# Altium footprint library PicoBlade.PcbLib: 10 footprints
Each footprint in its own frame and in the unit in brackets; x right, y up, seen from the top. Pads: shape width x height; smd on the part's side, far side on the other; paste and mask are expansions set on the pad; w line width, h text height; cw(c..) or ccw(c..) is an arc to the next point about the centre after c.
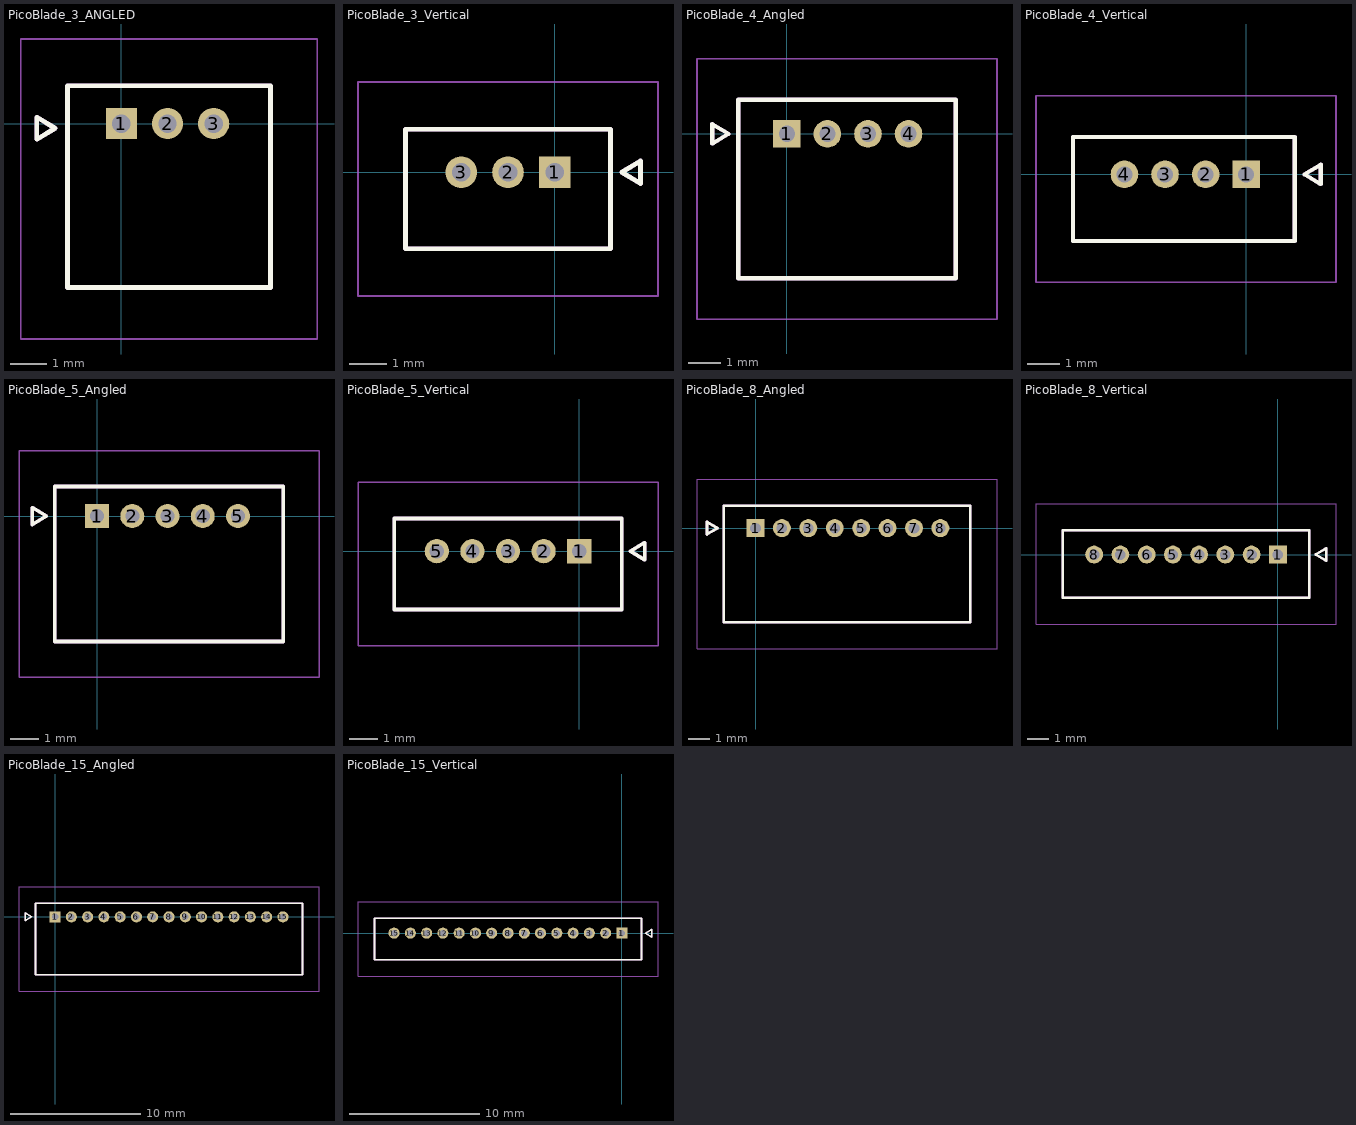
[diagram p0: the footprints below, top view; thin cyan lines are the x and y axes]

## PicoBlade_3_ANGLED [mm]
pads (3):
  rect 0.85x0.85 / inner round 0.85 / far side rect 0.85x0.85 hole 0.5 mask+0.076: 1(0,0)
  round 0.85 hole 0.5 mask+0.076: 2(1.25,0) 3(2.5,0)
Top Overlay:
  lines w0.127: -2.3,-0.427 -2.3,0.173 -1.8,-0.127 -2.3,-0.427 ; -1.46,-4.445 4.04,-4.445 4.04,1.023 -1.46,1.023 -1.46,-4.445
Mechanical 13:
  lines w0.127: -2.3,-0.427 -1.8,-0.127 -2.3,0.173 -2.3,-0.427 ; -1.46,-4.445 4.04,-4.445 4.04,1.023 -1.46,1.023 -1.46,-4.445
Mechanical 15:
  lines w0.05: -2.73,-5.842 5.31,-5.842 5.31,2.293 -2.73,2.293 -2.73,-5.842
3D body "530480310.stp": height 3.7, standoff -2.1, extent -1.48,-4.425 4.02,1.075

## PicoBlade_3_Vertical [mm]
pads (3):
  rect 0.85x0.85 / inner round 0.85 / far side rect 0.85x0.85 hole 0.5 mask+0.076: 1(0,0)
  round 0.85 hole 0.5 mask+0.076: 2(-1.25,0) 3(-2.5,0)
Top Overlay:
  lines w0.127: -4,-2.05 1.5,-2.05 1.5,1.15 -4,1.15 -4,-2.05 ; 1.8,0 2.3,-0.3 2.3,0.3 1.8,0
Mechanical 13:
  lines w0.127: -4,-2.05 1.5,-2.05 1.5,1.15 -4,1.15 -4,-2.05 ; 1.8,0 2.3,-0.3 2.3,0.3 1.8,0
Mechanical 15:
  lines w0.05: -5.27,-3.32 2.77,-3.32 2.77,2.42 -5.27,2.42 -5.27,-3.32
3D body "530470310--3DModel-STEP-231308.STEP": height 4.28, standoff -2.22, extent -4.02,-2.108 1.48,1.092

## PicoBlade_4_Angled [mm]
pads (4):
  rect 0.85x0.85 / inner round 0.85 / far side rect 0.85x0.85 hole 0.5 mask+0.076: 1(0,0)
  round 0.85 hole 0.5 mask+0.076: 2(1.25,0) 3(2.5,0) 4(3.75,0)
Top Overlay:
  lines w0.127: -2.3,-0.3 -1.8,0 -2.3,0.3 -2.3,-0.3 ; -1.5,-4.45 -1.5,1.05 5.207,1.05 5.207,-4.45 -1.5,-4.45
Mechanical 13:
  lines w0.127: -2.3,-0.3 -1.8,0 -2.3,0.3 -2.3,-0.3 ; -1.5,-4.45 -1.5,1.05 5.207,1.05 5.207,-4.45 -1.5,-4.45
Mechanical 15:
  lines w0.05: -2.77,-5.72 -2.77,2.32 6.477,2.32 6.477,-5.72 -2.77,-5.72
3D body "530480410.stp": height 3.6, standoff -2.2, extent -1.524,-4.445 5.226,1.055

## PicoBlade_4_Vertical [mm]
pads (4):
  rect 0.85x0.85 / inner round 0.85 / far side rect 0.85x0.85 hole 0.5 mask+0.076: 1(0,0)
  round 0.85 hole 0.5 mask+0.076: 2(-1.25,0) 3(-2.5,0) 4(-3.75,0)
Top Overlay:
  lines w0.127: -5.334,-2.05 -5.334,1.15 1.5,1.15 1.5,-2.05 -5.334,-2.05 ; 1.8,0 2.3,0.3 2.3,-0.3 1.8,0
Mechanical 13:
  lines w0.127: -5.334,-2.05 -5.334,1.15 1.5,1.15 1.5,-2.05 -5.334,-2.05 ; 1.8,0 2.3,0.3 2.3,-0.3 1.8,0
Mechanical 15:
  lines w0.05: -6.477,-3.32 -6.477,2.42 2.77,2.42 2.77,-3.32 -6.477,-3.32
3D body "530470410.stp": height 4.28, standoff -2.22, extent -5.28,-2.032 1.47,1.168

## PicoBlade_5_Angled [mm]
pads (5):
  rect 0.85x0.85 / inner round 0.85 / far side rect 0.85x0.85 hole 0.5 mask+0.076: 1(0,0)
  round 0.85 hole 0.5 mask+0.076: 2(1.25,0) 3(2.5,0) 4(3.75,0) 5(5,0)
Top Overlay:
  lines w0.127: -2.3,-0.3 -2.3,0.3 -1.8,0 -2.3,-0.3 ; -1.5,-4.45 6.604,-4.45 6.604,1.05 -1.5,1.05 -1.5,-4.45
Mechanical 13:
  lines w0.127: -2.3,-0.3 -2.3,0.3 -1.8,0 -2.3,-0.3 ; -1.5,-4.45 6.604,-4.45 6.604,1.05 -1.5,1.05 -1.5,-4.45
Mechanical 15:
  lines w0.05: -2.77,-5.72 7.874,-5.72 7.874,2.32 -2.77,2.32 -2.77,-5.72
3D body "530480510.stp": height 3.6, standoff -2.2, extent -1.46,-4.404 6.54,1.096

## PicoBlade_5_Vertical [mm]
pads (5):
  rect 0.85x0.85 / inner round 0.85 / far side rect 0.85x0.85 hole 0.5 mask+0.076: 1(0,0)
  round 0.85 hole 0.5 mask+0.076: 2(-1.25,0) 3(-2.5,0) 4(-3.75,0) 5(-5,0)
Top Overlay:
  lines w0.127: -6.5,-2.05 -6.5,1.15 1.5,1.15 1.5,-2.05 -6.5,-2.05 ; 1.8,0 2.3,0.3 2.3,-0.3 1.8,0
Mechanical 13:
  lines w0.127: -6.5,-2.05 -6.5,1.15 1.5,1.15 1.5,-2.05 -6.5,-2.05 ; 1.8,0 2.3,0.3 2.3,-0.3 1.8,0
Mechanical 15:
  lines w0.05: -7.77,-3.32 -7.77,2.42 2.77,2.42 2.77,-3.32 -7.77,-3.32
3D body "530470510--3DModel-STEP-231308.STEP": height 4.28, standoff -2.22, extent -6.54,-2.108 1.46,1.092

## PicoBlade_8_Angled [mm]
pads (8):
  rect 0.85x0.85 / inner round 0.85 / far side rect 0.85x0.85 hole 0.5 mask+0.076: 1(0,0)
  round 0.85 hole 0.5 mask+0.076: 2(1.25,0) 3(2.5,0) 4(3.75,0) 5(5,0) 6(6.25,0) 7(7.5,0) 8(8.75,0)
Top Overlay:
  lines w0.127: -2.3,-0.3 -1.8,0 -2.3,0.3 -2.3,-0.3 ; -1.5,-4.45 -1.5,1.05 10.16,1.05 10.16,-4.45 -1.5,-4.45
Mechanical 13:
  lines w0.127: -2.3,-0.3 -1.8,0 -2.3,0.3 -2.3,-0.3 ; -1.5,-4.45 -1.5,1.05 10.16,1.05 10.16,-4.45 -1.5,-4.45
Mechanical 15:
  lines w0.05: -2.77,-5.72 -2.77,2.32 11.43,2.32 11.43,-5.72 -2.77,-5.72
3D body "530480810.stp": height 3.6, standoff -2.2, extent -1.557,-4.404 10.193,1.096

## PicoBlade_8_Vertical [mm]
pads (8):
  rect 0.85x0.85 / inner round 0.85 / far side rect 0.85x0.85 hole 0.5 mask+0.076: 1(0,0)
  round 0.85 hole 0.5 mask+0.076: 2(-1.25,0) 3(-2.5,0) 4(-3.75,0) 5(-5,0) 6(-6.25,0) 7(-7.5,0) 8(-8.75,0)
Top Overlay:
  lines w0.127: -10.25,-2.05 1.5,-2.05 1.5,1.15 -10.25,1.15 -10.25,-2.05 ; 1.8,0 2.3,-0.3 2.3,0.3 1.8,0
Mechanical 13:
  lines w0.127: -10.25,-2.05 1.5,-2.05 1.5,1.15 -10.25,1.15 -10.25,-2.05 ; 1.8,0 2.3,-0.3 2.3,0.3 1.8,0
Mechanical 15:
  lines w0.05: -11.52,-3.32 2.77,-3.32 2.77,2.42 -11.52,2.42 -11.52,-3.32
3D body "530470810--3DModel-STEP-231308.STEP": height 4.28, standoff -2.22, extent -10.32,-2.108 1.43,1.092

## PicoBlade_15_Angled [mm]
pads (15):
  rect 0.85x0.85 / inner round 0.85 / far side rect 0.85x0.85 hole 0.5 mask+0.076: 1(0,0)
  round 0.85 hole 0.5 mask+0.076: 2(1.25,0) 3(2.5,0) 4(3.75,0) 5(5,0) 6(6.25,0) 7(7.5,0) 8(8.75,0) 9(10,0) 10(11.25,0) 11(12.5,0) 12(13.75,0) 13(15,0) 14(16.25,0) 15(17.5,0)
Top Overlay:
  lines w0.127: -2.3,-0.3 -1.8,0 -2.3,0.3 -2.3,-0.3 ; -1.5,-4.45 -1.5,1.05 19,1.05 19,-4.45 -1.5,-4.45
Mechanical 13:
  lines w0.127: -2.3,-0.3 -1.8,0 -2.3,0.3 -2.3,-0.3 ; -1.5,-4.45 -1.5,1.05 19,1.05 19,-4.45 -1.5,-4.45
Mechanical 15:
  lines w0.05: -2.77,-5.72 -2.77,2.32 20.27,2.32 20.27,-5.72 -2.77,-5.72
3D body "53048-1510.stp": height 3.55, standoff -2.25, extent -1.487,-4.445 19.013,1.055

## PicoBlade_15_Vertical [mm]
pads (15):
  rect 0.85x0.85 / inner round 0.85 / far side rect 0.85x0.85 hole 0.5 mask+0.076: 1(0,0)
  round 0.85 hole 0.5 mask+0.076: 2(-1.25,0) 3(-2.5,0) 4(-3.75,0) 5(-5,0) 6(-6.25,0) 7(-7.5,0) 8(-8.75,0) 9(-10,0) 10(-11.25,0) 11(-12.5,0) 12(-13.75,0) 13(-15,0) 14(-16.25,0) 15(-17.5,0)
Top Overlay:
  lines w0.127: -19,-2.05 1.5,-2.05 1.5,1.15 -19,1.15 -19,-2.05 ; 1.8,0 2.3,-0.3 2.3,0.3 1.8,0
Mechanical 13:
  lines w0.127: -19,-2.05 1.5,-2.05 1.5,1.15 -19,1.15 -19,-2.05 ; 1.8,0 2.3,-0.3 2.3,0.3 1.8,0
Mechanical 15:
  lines w0.05: -20.27,-3.32 2.77,-3.32 2.77,2.42 -20.27,2.42 -20.27,-3.32
3D body "53047-1510.stp": height 4.2, standoff -2.2, extent -18.976,-2.057 1.524,1.143